# Altium footprint library Audio.PcbLib: 4 footprints
Each footprint in its own frame and in the unit in brackets; x right, y up, seen from the top. Pads: shape width x height; smd on the part's side, far side on the other; paste and mask are expansions set on the pad; w line width, h text height; cw(c..) or ccw(c..) is an arc to the next point about the centre after c.
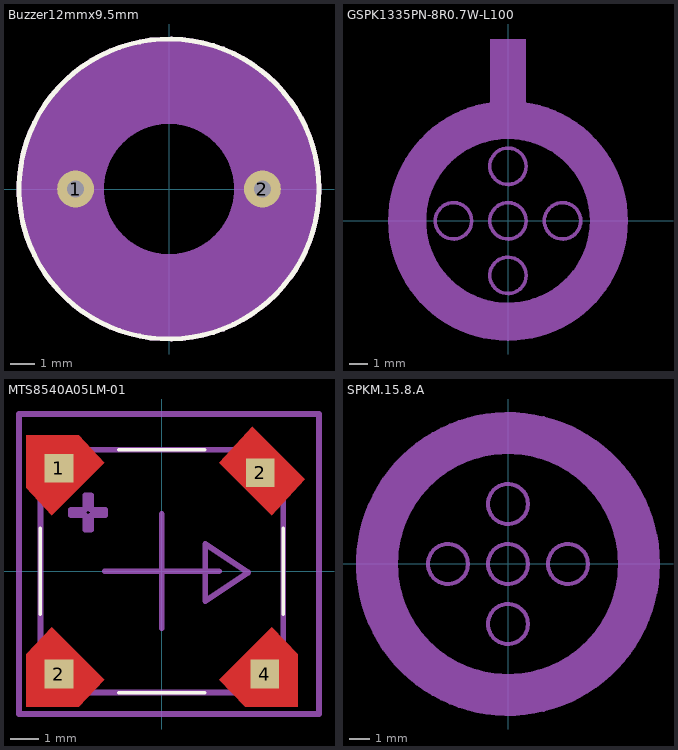
[diagram p0: the footprints below, top view; thin cyan lines are the x and y axes]

## Buzzer12mmx9.5mm [mm]
pads (2):
  round 1.5 hole 0.7: 1(-3.8,0) 2(3.8,0)
Top Overlay:
  circle w0.2: c0,0 r6.1
Mechanical 13:
  circle w3.5: c0,0 r4.4
  text ".Designator" at -1.95,0.283 h0.7
Mechanical 15:
  circle w0.2: c0,0 r6.1
3D body "WST-1203UX.step": height 9.66, standoff -4.49, extent -9.454,-6 6,6

## GSPK1335PN-8R0.7W-L100 [mm]
Mechanical 1:
  rectangle: -1,5 1,10
Mechanical 13:
  circle w2: c0,0 r5.5
  circle w0.2: c0,3 r1
  circle w0.2: c0,0 r1
  circle w0.2: c0,-3 r1
  circle w0.2: c3,0 r1
  circle w0.2: c-3,0 r1
  text ".Designator" at -3.499,-8.233 h0.7
Mechanical 15:
  circle w0.2: c0,0 r6.5
3D body "GSPK1335PN-8R0.7W-L100 v4.step": height 3.6, standoff 0, extent -6.55,-15.3 6.55,10

## MTS8540A05LM-01 [mm]
height 3.3
pads (4):
  rect 1x1 smd paste-1 mask+0: 1(-3.6,3.6) 2(-3.6,-3.6) 2(3.45,3.45) 4(3.6,-3.6)
Top Layer:
  region: -2.009,-3.798 -2.912,-4.75 -4.75,-4.75 -4.75,-2.912 -3.848,-1.959
  region: 5,3.212 3.848,1.959 2.009,3.798 3.162,5.05
  region: 4.75,-2.912 4.75,-4.75 2.912,-4.75 2.009,-3.798 3.848,-1.959
  region: -2.009,3.798 -3.848,1.959 -4.75,2.912 -4.75,4.75 -2.912,4.75
Top Overlay:
  lines w0.127: -4.25,-1.5 -4.25,1.5 ; -1.5,-4.25 1.5,-4.25 ; -1.5,4.25 1.5,4.25 ; 4.25,-1.5 4.25,1.5
Top Paste:
  region: -2.009,-3.798 -2.912,-4.75 -4.75,-4.75 -4.75,-2.912 -3.848,-1.959
  region: 5,3.212 3.848,1.959 2.009,3.798 3.162,5.05
  region: 4.75,-2.912 4.75,-4.75 2.912,-4.75 2.009,-3.798 3.848,-1.959
  region: -2.009,3.798 -3.848,1.959 -4.75,2.912 -4.75,4.75 -2.912,4.75
Top Solder:
  region: -1.809,-3.848 -2.912,-4.85 -4.85,-4.85 -4.85,-2.912 -3.848,-1.809
  region: 5.2,3.212 3.798,1.759 1.759,3.798 3.162,5.25
  region: 4.85,-2.812 4.85,-4.85 2.812,-4.85 1.859,-3.748 3.798,-1.809
  region: -1.909,3.798 -3.848,1.859 -4.85,2.812 -4.85,4.85 -2.812,4.85
Mechanical 13:
  lines w0.2: -3.996,2.941 -4.216,3.16 -4.216,4.292 -3.084,4.292 -2.865,4.072 ; 2.899,-4.031 3.119,-4.25 4.25,-4.25 4.25,-3.119 4.031,-2.899 ; 4.03,2.899 4.264,3.132 3.132,4.264 2.899,4.03 4.25,2.679 ; 4.25,2.679 2.679,4.25 -2.68,4.25 -4.25,2.679 -4.25,-2.68 -2.68,-4.25 2.679,-4.25 4.25,-2.68 4.25,2.679 ; -4.25,-4.25 -3.119,-4.25 -2.899,-4.031 -4.031,-2.899 -4.25,-3.119 -4.25,-4.25 ; -3.18,1.954 -3.18,2.154 -2.68,2.154 -2.68,2.654 -2.48,2.654 -2.48,2.154 -1.98,2.154 -1.98,1.954 -2.48,1.954 -2.48,1.454 -2.68,1.454 -2.68,1.954 -3.18,1.954 ; 1.52,-1.046 1.52,0.954 3.02,-0.046 1.52,-1.046
  text ".Designator" at -2.499,-2.216 h0.5
Mechanical 15:
  lines w0.2: -2,0 2,0 ; 0,-2 0,2 ; -5,-5 -5,5.5 5.5,5.5 5.5,-5 -5,-5
3D body "L-KLS3-SMT-8.5_03B v3.step": height 3, standoff 0, extent -4.25,-4.25 4.264,4.264

## SPKM.15.8.A [mm]
Mechanical 13:
  circle w2: c0,0 r6.5
  circle w0.2: c0,3 r1
  circle w0.2: c0,0 r1
  circle w0.2: c0,-3 r1
  circle w0.2: c3,0 r1
  circle w0.2: c-3,0 r1
  text ".Designator" at -3.499,-8.233 h0.7
Mechanical 15:
  circle w0.2: c0,0 r7.5
3D body "SPKM.15.8.A_Web.STEP": height 1.15, standoff -2.55, extent -7.5,-35.492 7.5,7.5